# Altium footprint library IC_Analog_Devices_AD9910BSVZ_eec_IPC_B.PcbLib: 1 footprints
Each footprint in its own frame and in the unit in brackets; x right, y up, seen from the top. Pads: shape width x height; smd on the part's side, far side on the other; paste and mask are expansions set on the pad; w line width, h text height; cw(c..) or ccw(c..) is an arc to the next point about the centre after c.
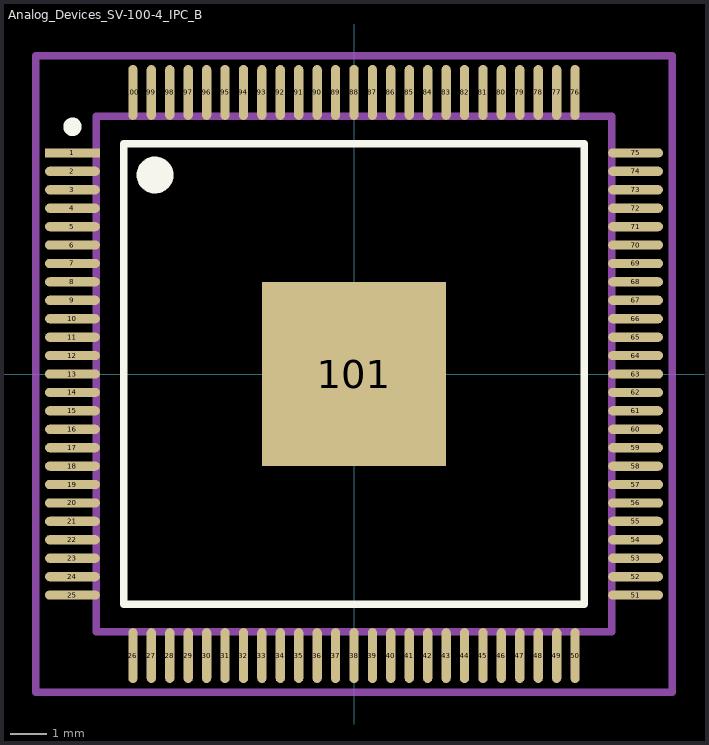
[diagram p0: the footprint, top view; thin cyan lines are the x and y axes]

## Analog_Devices_SV-100-4_IPC_B [mm]
pads (101):
  rect 1.488x0.252 smd paste+0 mask+0: 1(-7.641,6)
  rrect100% 1.488x0.252 smd paste+0 mask+0: 2(-7.641,5.5) 3(-7.641,5) 4(-7.641,4.5) 5(-7.641,4) 6(-7.641,3.5) 7(-7.641,3) 8(-7.641,2.5) 9(-7.641,2) 10(-7.641,1.5) 11(-7.641,1) 12(-7.641,0.5) 13(-7.641,0) 14(-7.641,-0.5) 15(-7.641,-1) 16(-7.641,-1.5) 17(-7.641,-2) 18(-7.641,-2.5) 19(-7.641,-3) 20(-7.641,-3.5) 21(-7.641,-4) 22(-7.641,-4.5) 23(-7.641,-5) 24(-7.641,-5.5) 25(-7.641,-6) 51(7.641,-6) 52(7.641,-5.5) 53(7.641,-5) 54(7.641,-4.5) 55(7.641,-4) 56(7.641,-3.5) 57(7.641,-3) 58(7.641,-2.5) 59(7.641,-2) 60(7.641,-1.5) 61(7.641,-1) 62(7.641,-0.5) 63(7.641,0) 64(7.641,0.5) 65(7.641,1) 66(7.641,1.5) 67(7.641,2) 68(7.641,2.5) 69(7.641,3) 70(7.641,3.5) 71(7.641,4) 72(7.641,4.5) 73(7.641,5) 74(7.641,5.5) 75(7.641,6)
  rrect100% 0.252x1.488 smd paste+0 mask+0: 26(-6,-7.641) 27(-5.5,-7.641) 28(-5,-7.641) 29(-4.5,-7.641) 30(-4,-7.641) 31(-3.5,-7.641) 32(-3,-7.641) 33(-2.5,-7.641) 34(-2,-7.641) 35(-1.5,-7.641) 36(-1,-7.641) 37(-0.5,-7.641) 38(0,-7.641) 39(0.5,-7.641) 40(1,-7.641) 41(1.5,-7.641) 42(2,-7.641) 43(2.5,-7.641) 44(3,-7.641) 45(3.5,-7.641) 46(4,-7.641) 47(4.5,-7.641) 48(5,-7.641) 49(5.5,-7.641) 50(6,-7.641) 76(6,7.641) 77(5.5,7.641) 78(5,7.641) 79(4.5,7.641) 80(4,7.641) 81(3.5,7.641) 82(3,7.641) 83(2.5,7.641) 84(2,7.641) 85(1.5,7.641) 86(1,7.641) 87(0.5,7.641) 88(0,7.641) 89(-0.5,7.641) 90(-1,7.641) 91(-1.5,7.641) 92(-2,7.641) 93(-2.5,7.641) 94(-3,7.641) 95(-3.5,7.641) 96(-4,7.641) 97(-4.5,7.641) 98(-5,7.641) 99(-5.5,7.641) 100(-6,7.641)
  rect 5x5 smd paste-1000 mask+0: 101(0,0)
Top Overlay:
  circle w0.25: c-7.641,6.71 r0.125
  circle w0.5: c-5.4,5.4 r0.25
  lines w0.2: -6.25,-6.25 6.25,-6.25 6.25,6.25 -6.25,6.25 -6.25,-6.25
Top Paste:
  rectangle: -1.887,0.306 -0.306,1.887
  rectangle: 0.306,0.306 1.887,1.887
  rectangle: -1.887,-1.887 -0.306,-0.306
  rectangle: 0.306,-1.887 1.887,-0.306
Mechanical 10:
  lines w0.2: -8.635,-8.635 8.635,-8.635 8.635,8.635 -8.635,8.635 -8.635,-8.635
  text ".Designator" at 0,0.188 h1
Mechanical 12:
  lines w0.2: -7,-7 7,-7 7,7 -7,7 -7,-7
Mechanical 15:
  lines w0.1: -0.5,0 0.5,0 ; 0,-0.5 0,0.5
  lines w0.2: -8.635,-8.635 8.635,-8.635 8.635,8.635 -8.635,8.635 -8.635,-8.635